# EAGLE library part IP4283CZ10 (library IP4283CZ10)
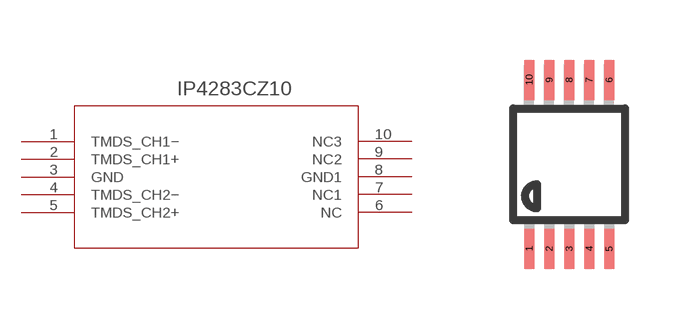
[diagram p0: symbol with the pads of IP4283CZ20; footprint IP4283CZ20]

Designator prefix -

## IP4283CZ10  [IP4283CZ20]
1  TMDS_CH1−  pwr
2  TMDS_CH1+  pas
3  GND  pwr
4  TMDS_CH2−  out
5  TMDS_CH2+  pas
6  NC  pas
7  NC1  in
8  GND1  pwr
9  NC2  pas
10  NC3  pwr

## Footprint IP4283CZ20 (pad centres in mm)
smd 0.25 x 1: 1 -13.7,0.427; 2 -13.2,0.427; 3 -12.7,0.427; 4 -12.2,0.427; 5 -11.7,0.427; 6 -11.7,4.653; 7 -12.2,4.653; 8 -12.7,4.653; 9 -13.2,4.653; 10 -13.7,4.653